# EAGLE library part STM32L431RBI6 (library circuit_tree)
IC
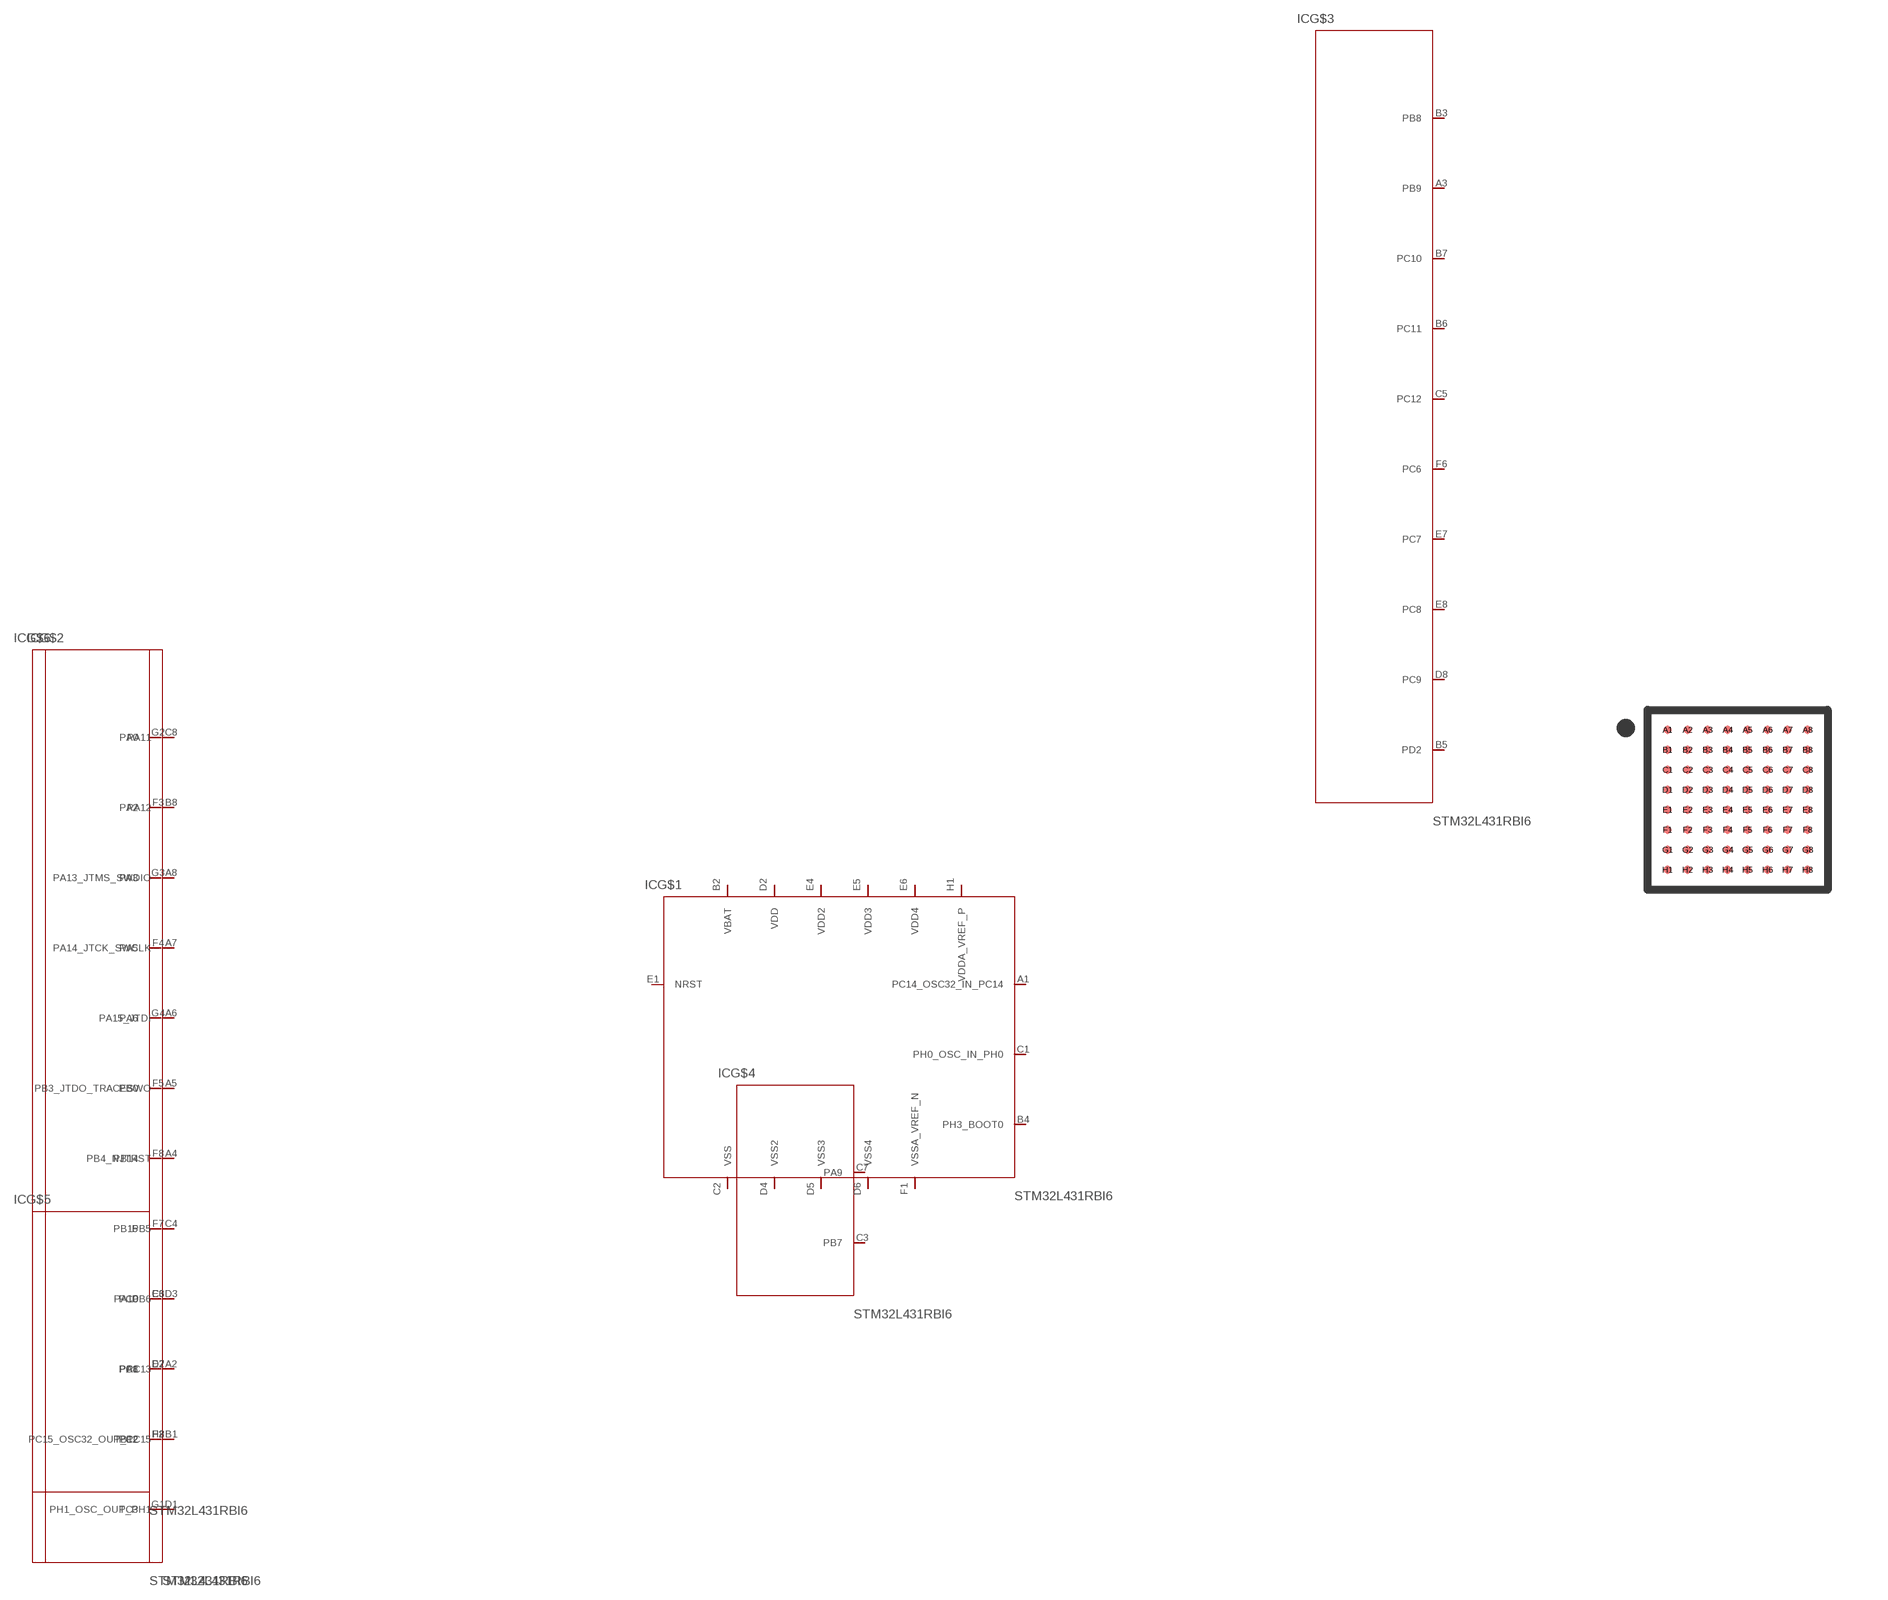
[diagram p4: symbol with the pads of UFBGA64; footprint UFBGA64]

Designator prefix IC; gates G$1=STM32L431RBI6 G$2=STM32L431RBI62 G$3=STM32L431RBI63 G$4=STM32L431RBI64 G$5=STM32L431RBI65 G$6=STM32L431RBI66

## STM32L431RBI6  [UFBGA64]
A1  G$1:PC14_OSC32_IN_PC14  pas
A2  G$2:PC13  pas
A3  G$3:PB9  pas
A4  G$2:PB4_NJTRST  pas
A5  G$2:PB3_JTDO_TRACESWO  pas
A6  G$2:PA15_JTDI  pas
A7  G$2:PA14_JTCK_SWCLK  pas
A8  G$2:PA13_JTMS_SWDIO  pas
B1  G$2:PC15_OSC32_OUT_PC15  pas
B2  G$1:VBAT  pas
B3  G$3:PB8  pas
B4  G$1:PH3_BOOT0  pas
B5  G$3:PD2  pas
B6  G$3:PC11  pas
B7  G$3:PC10  pas
B8  G$2:PA12  pas
C1  G$1:PH0_OSC_IN_PH0  pas
C2  G$1:VSS  pas
C3  G$4:PB7  pas
C4  G$2:PB5  pas
C5  G$3:PC12  pas
C6  G$5:PA10  pas
C7  G$4:PA9  pas
C8  G$2:PA11  pas
D1  G$2:PH1_OSC_OUT_PH1  pas
D2  G$1:VDD  pas
D3  G$2:PB6  pas
D4  G$1:VSS2  pas
D5  G$1:VSS3  pas
D6  G$1:VSS4  pas
D7  G$5:PA8  pas
D8  G$3:PC9  pas
E1  G$1:NRST  pas
E2  G$6:PC1  pas
E3  G$6:PC0  pas
E4  G$1:VDD2  pas
E5  G$1:VDD3  pas
E6  G$1:VDD4  pas
E7  G$3:PC7  pas
E8  G$3:PC8  pas
F1  G$1:VSSA_VREF_N  pas
F2  G$6:PC2  pas
F3  G$6:PA2  pas
F4  G$6:PA5  pas
F5  G$6:PB0  pas
F6  G$3:PC6  pas
F7  G$6:PB15  pas
F8  G$6:PB14  pas
G1  G$6:PC3  pas
G2  G$6:PA0  pas
G3  G$6:PA3  pas
G4  G$6:PA6  pas
H1  G$1:VDDA_VREF_P  pas
H8  G$5:PB12  pas

## Footprint UFBGA64 (pad centres in mm)
smd 0.2 x 0.2: A1 -1.75,1.75; A2 -1.25,1.75; A3 -0.75,1.75; A4 -0.25,1.75; A5 0.25,1.75; A6 0.75,1.75; A7 1.25,1.75; A8 1.75,1.75; B1 -1.75,1.25; B2 -1.25,1.25; B3 -0.75,1.25; B4 -0.25,1.25; B5 0.25,1.25; B6 0.75,1.25; B7 1.25,1.25; B8 1.75,1.25; C1 -1.75,0.75; C2 -1.25,0.75; C3 -0.75,0.75; C4 -0.25,0.75; C5 0.25,0.75; C6 0.75,0.75; C7 1.25,0.75; C8 1.75,0.75; D1 -1.75,0.25; D2 -1.25,0.25; D3 -0.75,0.25; D4 -0.25,0.25; D5 0.25,0.25; D6 0.75,0.25; D7 1.25,0.25; D8 1.75,0.25; E1 -1.75,-0.25; E2 -1.25,-0.25; E3 -0.75,-0.25; E4 -0.25,-0.25; E5 0.25,-0.25; E6 0.75,-0.25; E7 1.25,-0.25; E8 1.75,-0.25; F1 -1.75,-0.75; F2 -1.25,-0.75; F3 -0.75,-0.75; F4 -0.25,-0.75; F5 0.25,-0.75; F6 0.75,-0.75; F7 1.25,-0.75; F8 1.75,-0.75; G1 -1.75,-1.25; G2 -1.25,-1.25; G3 -0.75,-1.25; G4 -0.25,-1.25; G5 0.25,-1.25; G6 0.75,-1.25; G7 1.25,-1.25; G8 1.75,-1.25; H1 -1.75,-1.75; H2 -1.25,-1.75; H3 -0.75,-1.75; H4 -0.25,-1.75; H5 0.25,-1.75; H6 0.75,-1.75; H7 1.25,-1.75; H8 1.75,-1.75